# Altium footprint library Battery.PcbLib: 44 footprints (part 2 of 3)
Each footprint in its own frame and in the unit in brackets; x right, y up, seen from the top. Pads: shape width x height; smd on the part's side, far side on the other; paste and mask are expansions set on the pad; w line width, h text height; cw(c..) or ccw(c..) is an arc to the next point about the centre after c.
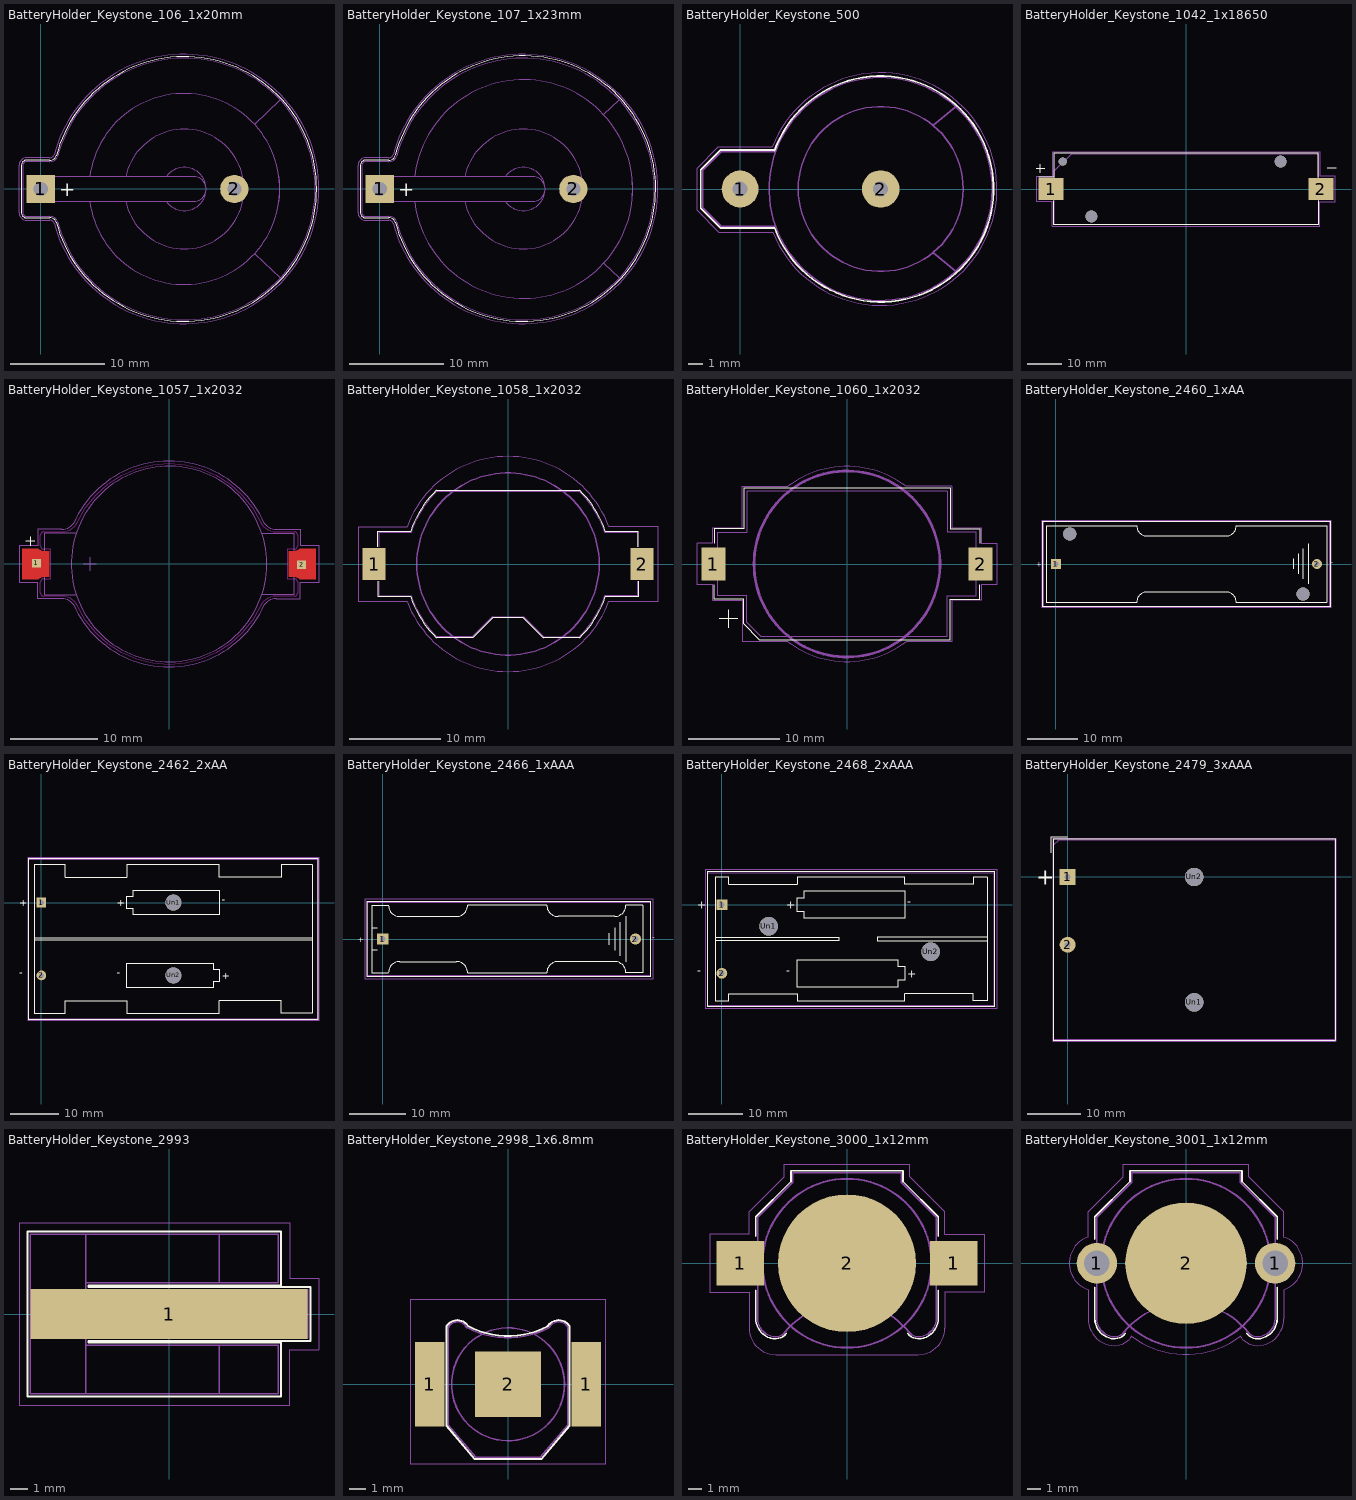
[diagram p1: the footprints below, top view; thin cyan lines are the x and y axes]

## BatteryHolder_Keystone_106_1x20mm [mm]
pads (2):
  rect 3x3 hole 1.5: 1(0,0)
  round 3 hole 1.5: 2(20.49,0)
F.SilkS:
  lines w0.12: -2.05,-2.5 -2.05,2.5 cw(c-1.5,2.5) -1.5,3.05 0.95,3.05 ccw(c0.95,3.806) 1.65,3.52 cw(c15.2,0) 29.2,0 cw(c15.2,0) 1.65,-3.52 ccw(c0.95,-3.806) 0.95,-3.05 -1.5,-3.05 cw(c-1.5,-2.5) -2.05,-2.5
  text "+" at 1.957,-0.793 h1.5
F.CrtYd:
  lines w0.05: -2.3,-2.5 -2.3,2.5 cw(c-1.5,2.5) -1.5,3.3 0.95,3.3 ccw(c0.95,3.803) 1.41,3.6 cw(c15.199,0.004) 29.45,0 cw(c15.199,-0.004) 1.41,-3.6 ccw(c0.95,-3.803) 0.95,-3.3 -1.5,-3.3 cw(c-1.5,-2.5) -2.3,-2.5
F.Fab:
  lines w0.1: 5.18,-1.3 ccw(c15.2,0) 25.22,1.3 ; 5.18,1.3 cw(c15.2,0) 25.22,-1.3 ; 9,-1.3 ccw(c15.198,-0.003) 21.53,0 ccw(c15.198,0.003) 9,1.3 ; 13.3,-1.3 ccw(c15.2,0) 17.495,0.176 ; 13.3,1.3 cw(c15.2,0) 17.495,-0.176 ; 22.644,-6.858 25.35,-9.373 ; 22.657,6.858 25.342,9.429 ; -1.9,-2.5 -1.9,2.5 cw(c-1.5,2.5) -1.5,2.9 0.95,2.9 ccw(c0.95,3.802) 1.8,3.5 cw(c15.2,0) 29.05,0 cw(c15.2,0) 1.8,-3.5 ccw(c0.95,-3.802) 0.95,-2.9 -1.5,-2.9 cw(c-1.5,-2.5) -1.9,-2.5 ; 0,-1.3 0,1.3 16.2,1.3 cw(c16.2,0) 16.2,-1.3 0,-1.3
  text "'.Designator'" at 3.253,1.91 h1

## BatteryHolder_Keystone_107_1x23mm [mm]
pads (2):
  rect 3x3 hole 1.5: 1(0,0)
  round 3 hole 1.5: 2(20.49,0)
F.SilkS:
  lines w0.12: 1.65,3.52 cw(c0.95,3.806) 0.95,3.05 -1.5,3.05 ccw(c-1.5,2.5) -2.05,2.5 -2.05,-2.5 ccw(c-1.5,-2.5) -1.5,-3.05 0.95,-3.05 cw(c0.95,-3.806) 1.65,-3.52 ccw(c15.2,0) 29.2,0 ccw(c15.2,0.085) 1.65,3.605
  text "+" at 1.957,-0.793 h1.5
F.CrtYd:
  lines w0.05: -2.3,-2.5 -2.3,2.5 cw(c-1.5,2.5) -1.5,3.3 0.95,3.3 ccw(c0.95,3.803) 1.41,3.6 cw(c15.199,0.004) 29.45,0 cw(c15.199,-0.004) 1.41,-3.6 ccw(c0.95,-3.803) 0.95,-3.3 -1.5,-3.3 cw(c-1.5,-2.5) -2.3,-2.5
F.Fab:
  lines w0.1: 3.7,-1.3 ccw(c15.2,0) 26.7,1.3 ; 3.7,1.3 cw(c15.2,0) 26.7,-1.3 ; 9,-1.3 ccw(c15.198,-0.003) 21.53,0 ccw(c15.198,0.003) 9,1.3 ; 13.3,-1.3 ccw(c15.2,0) 17.495,0.176 ; 13.3,1.3 cw(c15.2,0) 17.495,-0.176 ; 23.711,7.887 25.339,9.439 ; 23.724,-7.861 25.367,-9.391 ; -1.9,-2.5 -1.9,2.5 cw(c-1.5,2.5) -1.5,2.9 0.95,2.9 ccw(c0.95,3.802) 1.8,3.5 cw(c15.2,0) 29.05,0 cw(c15.2,0) 1.8,-3.5 ccw(c0.95,-3.802) 0.95,-2.9 -1.5,-2.9 cw(c-1.5,-2.5) -1.9,-2.5 ; 0,-1.3 0,1.3 16.2,1.3 cw(c16.2,0) 16.2,-1.3 0,-1.3
  text "'.Designator'" at 3.053,2.31 h1

## BatteryHolder_Keystone_500 [mm]
pads (2):
  round 2.5 hole 1.02: 1(0,0)
  round 2.54 hole 1.02: 2(9.53,0)
F.SilkS:
  lines w0.12: 2.33,-2.65 -1.32,-2.65 -2.67,-1.3 -2.67,1.3 -1.32,2.65 2.33,2.65 ; 2.33,2.6 cw(c9.53,0) 2.343,-2.636
F.CrtYd:
  lines w0.05: 2.211,-2.928 ccw(c9.53,0) 2.18,2.85 -1.47,2.85 -2.92,1.4 -2.92,-1.45 -1.42,-2.95 2.23,-2.95
F.Fab:
  circle w0.1: c9.53,0 r5.59
  circle w0.1: c9.53,0 r7.559
  lines w0.1: 2.41,-2.54 -1.27,-2.54 -2.54,-1.27 -2.54,1.27 -1.27,2.54 2.41,2.54 ; 13.08,-4.32 14.61,-5.59 ; 13.08,4.32 14.61,5.59
  text "'.Designator'" at 3.228,-0.84 h1

## BatteryHolder_Keystone_1042_1x18650 [mm]
pads (5):
  rect 7.34x6.35 smd: 1(-39.33,0) 2(39.33,0)
  round 3.45 hole 3.45: Un1(-27.6,-8) Un3(27.6,8)
  round 2.39 hole 2.39: Un2(-35.93,8)
F.SilkS:
  lines w0.12: -43.75,6 -41.25,6 ; -43,3.44 -38.64,3.44 -38.64,10.44 38.64,10.44 ; -42.5,4.75 -42.5,7.25 ; -38.64,-3.44 -38.64,-10.44 38.64,-10.44 38.64,-3.44 ; 38.64,3.44 38.64,10.42 ; 41.25,6 43.75,6
F.CrtYd:
  lines w0.05: -43.5,-3.68 -39.03,-3.68 -39.03,-10.83 39.03,-10.83 39.03,-3.68 43.5,-3.68 43.5,3.68 39.03,3.68 39.03,10.83 -39.03,10.83 -39.03,3.68 -43.5,3.68 -43.5,-3.68
F.Fab:
  lines w0.1: -38.53,-10.33 -38.53,5.168 -33.367,10.33 38.53,10.33 38.53,-10.33 -38.53,-10.33
  text "'.Designator'" at -4.047,-0.84 h1

## BatteryHolder_Keystone_1057_1x2032 [mm]
pads (2):
  rect 1x1 smd: 1(-15.15,0.1) 2(15.15,-0.1)
F.Cu:
  region: -14.95,1.75 -14.878,1.695 -14.807,1.639 -14.649,1.55 -14.565,1.517 -14.481,1.485 -14.392,1.465 -14.304,1.444 -14.124,1.43 -13.706,1.43 -13.706,-1.44 -14.106,-1.44 -14.288,-1.453 -14.467,-1.493 -14.637,-1.559 -14.797,-1.648 -14.869,-1.704 -14.941,-1.76 -16.8,-1.76 -16.8,1.75
  region: 16.8,-1.75 14.95,-1.75 14.878,-1.695 14.807,-1.639 14.649,-1.55 14.565,-1.517 14.481,-1.485 14.392,-1.465 14.304,-1.444 14.124,-1.43 13.706,-1.43 13.706,1.44 14.106,1.44 14.288,1.453 14.467,1.493 14.637,1.559 14.797,1.648 14.869,1.704 14.941,1.76 16.8,1.76
F.SilkS:
  lines w0.12: -16.35,2.6 -15.35,2.6 ; -15.85,2.1 -15.85,3.1
F.Paste:
  region: -14.95,1.75 -14.878,1.695 -14.807,1.639 -14.649,1.55 -14.565,1.517 -14.481,1.485 -14.392,1.465 -14.304,1.444 -14.124,1.43 -13.706,1.43 -13.706,-1.44 -14.106,-1.44 -14.288,-1.453 -14.467,-1.493 -14.637,-1.559 -14.797,-1.648 -14.869,-1.704 -14.941,-1.76 -16.8,-1.76 -16.8,1.75
  region: 16.8,-1.75 14.95,-1.75 14.878,-1.695 14.807,-1.639 14.649,-1.55 14.565,-1.517 14.481,-1.485 14.392,-1.465 14.304,-1.444 14.124,-1.43 13.706,-1.43 13.706,1.44 14.106,1.44 14.288,1.453 14.467,1.493 14.637,1.559 14.797,1.648 14.869,1.704 14.941,1.76 16.8,1.76
F.Mask:
  region: -14.95,1.75 -14.878,1.695 -14.807,1.639 -14.649,1.55 -14.565,1.517 -14.481,1.485 -14.392,1.465 -14.304,1.444 -14.124,1.43 -13.706,1.43 -13.706,-1.44 -14.106,-1.44 -14.288,-1.453 -14.467,-1.493 -14.637,-1.559 -14.797,-1.648 -14.869,-1.704 -14.941,-1.76 -16.8,-1.76 -16.8,1.75
  region: 16.8,-1.75 14.95,-1.75 14.878,-1.695 14.807,-1.639 14.649,-1.55 14.565,-1.517 14.481,-1.485 14.392,-1.465 14.304,-1.444 14.124,-1.43 13.706,-1.43 13.706,1.44 14.106,1.44 14.288,1.453 14.467,1.493 14.637,1.559 14.797,1.648 14.869,1.704 14.941,1.76 16.8,1.76
Edge.Cuts:
  lines w0.1: 14.7,-2.085 ccw(c14.3,-2.085) 14.3,-1.685 13.5,-1.685 13.5,1.685 14.3,1.685 ccw(c14.3,2.085) 14.7,2.085 14.7,3.285 ccw(c14.3,3.285) 14.3,3.685 12.245,3.685 11.921,3.711 11.607,3.789 11.309,3.917 11.035,4.092 10.794,4.308 10.591,4.561 10.431,4.843 9.511,6.465 8.341,7.917 6.952,9.16 5.381,10.163 3.668,10.899 1.858,11.349 0,11.5 -1.858,11.349 -3.668,10.899 -5.381,10.163 -6.952,9.16 -8.341,7.917 -9.511,6.465 -10.431,4.843 -10.591,4.561 -10.794,4.308 -11.035,4.092 -11.309,3.917 -11.607,3.789 -11.921,3.711 -12.245,3.685 -14.3,3.685 ccw(c-14.3,3.285) -14.7,3.285 -14.7,2.085 ccw(c-14.3,2.085) -14.3,1.685 -13.5,1.685 -13.5,-1.685 -14.3,-1.685 ccw(c-14.3,-2.085) -14.7,-2.085 -14.7,-3.285 ccw(c-14.3,-3.285) -14.3,-3.685 -12.245,-3.685 -11.921,-3.711 -11.607,-3.789 -11.309,-3.917 -11.035,-4.092 -10.794,-4.308 -10.591,-4.561 -10.431,-4.843 -9.511,-6.465 -8.341,-7.917 -6.952,-9.16 -5.381,-10.163 -3.668,-10.899 -1.858,-11.349 0,-11.5 1.858,-11.349 3.668,-10.899 5.381,-10.163 6.952,-9.16 8.341,-7.917 9.511,-6.465 10.431,-4.843 10.591,-4.561 10.794,-4.308 11.035,-4.092 11.309,-3.917 11.607,-3.789 11.921,-3.711 12.245,-3.685 14.3,-3.683 ccw(c14.3,-3.283) 14.7,-3.283 14.7,-2.083
F.CrtYd:
  lines w0.05: -17.15,-2.09 -17.15,2.09 -15,2.09 -15,3.95 -12.25,3.95 ccw(c-12.277,5.654) -10.9,4.65 cw(c0,-0.13) 10.9,4.65 ccw(c12.277,5.654) 12.25,3.95 15,3.95 15,2.09 17.15,2.09 17.15,-2.09 15,-2.09 15,-3.95 12.25,-3.95 ccw(c12.277,-5.654) 10.9,-4.65 cw(c0,0.13) -10.9,-4.65 ccw(c-12.277,-5.654) -12.25,-3.95 -15,-3.95 -15,-2.09 -17.15,-2.09
F.Fab:
  circle w0.1: c0,0 r11.18
  lines w0.1: -10.62,-3.5 -14.25,-3.5 -14.25,3.5 -10.62,3.5 ; -9.8,0 -8.3,0 ; -9.05,-0.75 -9.05,0.75 ; 10.62,-3.5 14.25,-3.5 14.25,3.5 10.62,3.5
  text "'.Designator'" at -4.047,-0.84 h1

## BatteryHolder_Keystone_1058_1x2032 [mm]
pads (2):
  rect 2.54x3.51 smd: 1(-14.68,0) 2(14.68,0)
F.SilkS:
  lines w0.12: -14.31,-1.9 -14.31,-3.61 -10.692,-3.61 ccw(c0,0) -7.845,-8.112 ; -14.31,1.9 -14.31,3.61 -10.692,3.61 cw(c0,0) -7.845,8.112 ; -7.847,-8.11 -3.86,-8.11 -1.66,-5.91 1.66,-5.91 3.86,-8.11 7.847,-8.11 ; -7.847,8.11 7.847,8.11 ; 7.845,-8.112 ccw(c0,0) 10.692,-3.61 14.31,-3.61 14.31,-1.9 ; 7.845,8.112 cw(c0,0) 10.692,3.61 14.31,3.61 14.31,1.9
Dwgs.User:
  circle w0.15: c0,0 r10
F.CrtYd:
  lines w0.05: -11.06,-4.11 -16.45,-4.11 -16.45,4.11 -11.06,4.11 cw(c0,0) 11.058,4.116 ; -11.058,-4.116 ccw(c0,0) 11.06,-4.11 16.45,-4.11 16.45,4.11 11.06,4.11
F.Fab:
  lines w0.1: -14.2,-1.9 -14.2,-3.5 -10.613,-3.5 ccw(c0,0) -7.803,-8 -3.9,-8 -1.7,-5.8 1.7,-5.8 3.9,-8 7.803,-8 ccw(c0,0) 10.613,-3.5 14.2,-3.5 14.2,-1.9 ; -14.2,1.9 -14.2,3.5 -10.613,3.5 cw(c0,0) -7.803,8 7.803,8 cw(c0,0) 10.613,3.5 14.2,3.5 14.2,1.9
  text "'.Designator'" at -4.047,-0.84 h1

## BatteryHolder_Keystone_1060_1x2032 [mm]
pads (2):
  rect 2.6x3.6 smd: 1(-14.65,0) 2(14.65,0)
F.SilkS:
  lines w0.12: -14.55,-2.3 -14.55,-3.85 -11.35,-3.85 -11.35,-6.55 -9.55,-8.35 11.35,-8.35 11.35,-3.85 14.55,-3.85 14.55,-2.3 ; -14.55,2.3 -14.55,3.85 -11.35,3.85 -11.35,8.35 11.35,8.35 11.35,3.85 14.55,3.85 14.55,2.3 ; -14,-6 -12,-6 ; -13,-7 -13,-5
Dwgs.User:
  circle w0.3: c0,0 r10.2
F.CrtYd:
  lines w0.05: -16.45,-2.3 -14.7,-2.3 -14.7,-4 -11.5,-4 -11.5,-8.5 -6.5,-8.5 ccw(c0,0) 6.5,-8.5 11.5,-8.5 11.5,-4 14.7,-4 14.7,-2.3 16.45,-2.3 16.45,2.3 14.7,2.3 14.7,4 11.5,4 11.5,8.5 6.5,8.5 ccw(c0,0) -6.5,8.5 -11.5,8.5 -11.5,4 -14.7,4 -14.7,2.3 -16.45,2.3 -16.45,-2.3
F.Fab:
  lines w0.1: -14.2,-3.5 -14.2,3.5 -11,3.5 -11,8 11,8 11,3.5 14.2,3.5 14.2,-3.5 11,-3.5 11,-8 -9.4,-8 -11,-6.4 -11,-3.5 -14.2,-3.5
  text "'.Designator'" at -4.047,-0.84 h1

## BatteryHolder_Keystone_2460_1xAA [mm]
pads (4):
  rect 2x2 hole 1.02: 1(0,0)
  round 2 hole 1.02: 2(51.99,0)
  round 2.64 hole 2.64: Un1(49.23,-5.995) Un2(2.75,5.995)
F.SilkS:
  lines w0.12: 47.31,-0.94 47.31,1.06 ; 48.31,-1.94 48.31,2.06 ; 49.31,-2.94 49.31,3.06 ; 50.31,-3.94 50.31,4.06 ; -2.62,-8.565 -2.62,8.565 54.62,8.565 54.62,-8.565 -2.62,-8.565 ; -1.9,-7.6 16.1,-7.6 cw(c18.1,-7.6) 18.1,-5.6 33.9,-5.6 cw(c33.9,-7.6) 35.9,-7.6 53.9,-7.6 53.9,7.6 35.9,7.6 cw(c33.9,7.6) 33.9,5.6 18.1,5.6 cw(c18.1,7.6) 16.1,7.6 -1.9,7.6 -1.9,-7.6
  text "+" at -3.978,-0.518 h1
  text "-" at 54.792,-0.09 h1
F.CrtYd:
  lines w0.05: -2.75,-8.7 -2.75,8.7 54.75,8.7 54.75,-8.7 -2.75,-8.7
F.Fab:
  lines w0.1: -2.5,-8.445 -2.5,8.445 54.5,8.445 54.5,-8.445 -2.5,-8.445
  text "'.Designator'" at -4.037,-0.78 h1

## BatteryHolder_Keystone_2462_2xAA [mm]
pads (4):
  rect 2x2 hole 1.02: 1(0,0)
  round 2 hole 1.02: 2(0,-14.99)
  round 3.3 hole 3.3: Un1(27.165,0) Un2(27.165,-14.99)
F.SilkS:
  lines w0.12: -1.42,-7.749 55.75,-7.749 ; -1.42,-7.241 55.75,-7.241 ; -2.69,-24.055 57.02,-24.055 57.02,9.065 -2.69,9.065 -2.69,-24.055 ; -1.42,-22.785 4.925,-22.785 4.925,-20.245 17.625,-20.245 17.625,-22.785 36.675,-22.785 36.675,-20.245 49.375,-20.245 49.375,-22.785 55.75,-22.785 55.75,7.795 49.375,7.795 49.375,5.255 36.675,5.255 36.675,7.795 17.625,7.795 17.625,5.255 4.925,5.255 4.925,7.795 -1.42,7.795 -1.42,-22.785 ; 17.625,-17.53 17.625,-12.45 35.405,-12.45 35.405,-13.72 36.675,-13.72 36.675,-16.26 35.405,-16.26 35.405,-17.53 17.625,-17.53 ; 17.625,-1.27 17.625,1.27 18.895,1.27 18.895,2.54 36.675,2.54 36.675,1.27 36.675,-2.54 18.895,-2.54 18.895,-1.27 17.625,-1.27
  text "+" at 15.562,-0.793 h1.5
  text "+" at -4.603,-0.793 h1.5
  text "+" at 37.152,-15.783 h1.5
  text "-" at -4.603,-15.14 h1.5
  text "-" at 37.152,-0.15 h1.5
  text "-" at 15.562,-15.14 h1.5
F.CrtYd:
  lines w0.05: -2.84,-24.21 57.17,-24.21 57.17,9.22 -2.84,9.22 -2.84,-24.21
F.Fab:
  lines w0.1: -2.59,-23.955 -2.59,8.965 56.92,8.965 56.92,-23.955 -2.59,-23.955
  text "'.Designator'" at -4.047,9.32 h1

## BatteryHolder_Keystone_2466_1xAAA [mm]
pads (2):
  rect 2x2 hole 1.02: 1(0,0)
  round 2 hole 1.02: 2(44.7,0)
F.SilkS:
  lines w0.12: -2,-2 -1,-2 ; -2,2 -1,2 ; 40,-1 40,1 ; 41,-2 41,2 ; 42,-3 42,3 ; 43,-4 43,4 ; -2.8,-6.6 -2.8,6.6 47.4,6.6 47.4,-6.6 -2.8,-6.6 ; -2,-6 1,-6 cw(c3,-6) 3,-4 13,-4 cw(c13,-6) 15,-6 29,-6 cw(c31,-6) 31,-4 41,-4 cw(c41,-6) 43,-6 46,-6 46,6 43,6 cw(c41,6) 41,4 31,4 cw(c31,6) 29,6 15,6 cw(c13,6) 13,4 3,4 cw(c3,6) 1,6 -2,6 -2,-6
  text "+" at -4.388,-0.578 h1
  text "-" at 47.682,-0.15 h1
F.CrtYd:
  lines w0.05: -3.2,-7 -3.2,7 47.8,7 47.8,-7 -3.2,-7
F.Fab:
  lines w0.1: -2.7,-6.5 -2.7,0 -2.7,6.5 47.3,6.5 47.3,-6.5 -2.7,-6.5
  text "'.Designator'" at -4.047,-0.84 h1

## BatteryHolder_Keystone_2468_2xAAA [mm]
pads (4):
  rect 2x2 hole 1.02: 1(0,0)
  round 2 hole 1.02: 2(0,-12.7)
  round 3.45 hole 3.45: Un1(8.64,-4) Un2(38.61,-8.7)
F.SilkS:
  lines w0.12: -2.7,-18.755 50.5,-18.755 ; -2.7,-18.75 -2.7,6.05 ; -2.7,6.055 50.5,6.055 ; -1.27,-6.7 21.59,-6.7 21.59,-6 -1.27,-6 ; 49.07,-6.7 28.75,-6.7 28.75,-6 49.07,-6 ; 50.5,-18.75 50.5,6.05 ; -1.27,-17.78 1.27,-17.78 1.27,-16.51 13.97,-16.51 13.97,-17.78 33.83,-17.78 33.83,-16.51 46.53,-16.51 46.53,-17.78 49.07,-17.78 49.07,5.08 46.53,5.08 46.53,3.81 33.83,3.81 33.83,5.08 13.97,5.08 13.97,3.81 1.27,3.81 1.27,5.08 -1.27,5.08 -1.27,-17.78 ; 13.97,-15.24 32.56,-15.24 32.56,-13.97 33.83,-13.97 33.83,-11.43 32.56,-11.43 32.56,-10.16 13.97,-10.16 13.97,-15.24 ; 13.97,-1.27 13.97,1.27 15.24,1.27 15.24,2.54 33.83,2.54 33.83,-2.54 15.24,-2.54 15.24,-1.27 13.97,-1.27
  text "-" at 11.907,-12.85 h1.5
  text "+" at 34.307,-13.493 h1.5
  text "+" at -4.603,-0.793 h1.5
  text "+" at 11.907,-0.793 h1.5
  text "-" at -4.603,-12.85 h1.5
  text "-" at 34.307,-0.15 h1.5
F.CrtYd:
  lines w0.05: -3.09,-19.15 -3.09,6.45 50.89,6.45 50.89,-19.15 -3.09,-19.15
F.Fab:
  lines w0.1: -2.59,-18.645 -2.59,5.945 50.39,5.945 50.39,-18.645 -2.59,-18.645
  text "'.Designator'" at 19.853,-6.19 h1

## BatteryHolder_Keystone_2479_3xAAA [mm]
pads (4):
  rect 3x3 hole 1.1: 1(0,0)
  round 3 hole 1.1: 2(0,-12.7)
  round 3.45 hole 3.45: Un1(23.72,-23.5) Un2(23.72,0)
F.SilkS:
  lines w0.12: -3.09,4.5 -3.09,7.5 -0.09,7.5 ; -2.71,-30.62 50.16,-30.62 50.16,7.12 -2.71,7.12 -2.71,-30.62
  text "+" at -5.935,-1.485 h3
F.CrtYd:
  lines w0.05: -2.84,-30.75 50.29,-30.75 50.29,7.25 -2.84,7.25 -2.84,-30.75
F.Fab:
  lines w0.1: -2.59,-30.5 -2.59,6 -1.59,7 50.04,7 50.04,-30.5 -2.59,-30.5
  text "'.Designator'" at 19.678,-12.59 h1

## BatteryHolder_Keystone_2993 [mm]
pads (1):
  rect 16x2.9 smd: 1(0,0)
F.SilkS:
  lines w0.12: -8.15,-4.75 6.45,-4.75 6.45,-1.65 -4.65,-1.65 -4.65,-1.55 8.15,-1.55 8.15,1.55 -4.65,1.55 -4.65,1.65 6.45,1.65 6.45,4.75 -8.15,4.75 -8.15,-4.75
F.CrtYd:
  lines w0.05: -8.65,-5.25 6.95,-5.25 6.95,-2.05 8.65,-2.05 8.65,2.05 6.95,2.05 6.95,5.25 -8.65,5.25 -8.65,-5.25
F.Fab:
  lines w0.1: -4.8,-4.6 -4.8,-1.4 8,-1.4 8,1.4 -4.8,1.4 -4.8,4.6 ; -4.8,-1.8 6.3,-1.8 6.3,-4.6 -8,-4.6 -8,4.6 6.3,4.6 6.3,1.8 -4.8,1.8 ; 2.9,-4.6 2.9,-1.8 ; 2.9,1.8 2.9,4.6
  text "'.Designator'" at -4.047,-0.84 h1

## BatteryHolder_Keystone_2998_1x6.8mm [mm]
pads (3):
  rect 1.78x5.08 smd: 1(-4.7,0) 1(4.7,0)
  rect 3.96x3.96 smd: 2(0,0)
F.SilkS:
  lines w0.12: -3.706,3.491 cw(c-3.05,3.1) -2.4,3.5 ccw(c0,8) 2.391,3.495 ; -3.7,3.5 -3.7,-2.5 -2,-4.5 2,-4.5 3.7,-2.5 3.7,3.5 ; 2.393,3.494 cw(c3.05,3.1) 3.704,3.5
Dwgs.User:
  circle w0.1: c0,0 r3.4
F.CrtYd:
  lines w0.05: -5.9,-4.8 5.9,-4.8 5.9,5.1 -5.9,5.1 -5.9,-4.8
F.Fab:
  lines w0.1: -3.6,-2.45 -1.95,-4.4 1.95,-4.4 3.6,-2.45 3.6,3.5 ; -3.6,-2.4 -3.6,3.4 ; -2.5,3.43 ccw(c0,8.03) 2.464,3.411 ; 2.496,3.432 cw(c3.05,3.15) 3.6,3.44
  lines w0.12: -3.608,3.402 cw(c-3.05,3.17) -2.5,3.42
  text "'.Designator'" at -2.778,-4.633 h0.7

## BatteryHolder_Keystone_3000_1x12mm [mm]
pads (3):
  rect 3.5x3.3 smd: 1(-7.9,0) 1(7.9,0)
  round 10.2 smd: 2(0,0)
F.SilkS:
  lines w0.12: -6.75,-4.1 -6.75,-2 ; -6.75,-4.05 ccw(c-5.25,-4.1) -5.3,-5.6 ; -6.75,2 -6.75,3.45 -4.15,6.05 -4.15,6.85 4.15,6.85 4.15,6.05 6.75,3.45 6.75,2 ; -5.415,-5.584 ccw(c-5.29,-4.6) -4.5,-5.2 ; 4.5,-5.2 ccw(c5.29,-4.6) 5.415,-5.584 ; 5.3,-5.6 ccw(c5.25,-4.1) 6.75,-4.05 ; 6.75,-4.1 6.75,-2
Dwgs.User:
  circle w0.15: c0,0 r6.25
F.CrtYd:
  lines w0.05: -10.15,-2.15 -7.25,-2.15 -7.25,-4.8 ccw(c-5.29,-4.8) -5.29,-6.76 5.29,-6.76 ccw(c5.29,-4.8) 7.25,-4.8 7.25,-2.15 10.15,-2.15 10.15,2.15 7.25,2.15 7.25,3.8 4.65,6.4 4.65,7.35 -4.65,7.35 -4.65,6.4 -7.25,3.8 -7.25,2.15 -10.15,2.15 -10.15,-2.15
F.Fab:
  lines w0.1: -6.6,-4.1 -6.6,3.4 -4,6 -4,6.7 4,6.7 4,6 6.6,3.4 6.6,-4.1 ; -6.6,-4.05 ccw(c-5.25,-4.1) -5.3,-5.45 ; -5.378,-5.448 ccw(c-5.29,-4.6) -4.6,-5.1 cw(c0,-8.9) 4.608,-5.11 ; 4.6,-5.1 ccw(c5.29,-4.6) 5.378,-5.448 ; 5.3,-5.45 ccw(c5.25,-4.1) 6.6,-4.05
  text "'.Designator'" at -4.047,-0.84 h1

## BatteryHolder_Keystone_3001_1x12mm [mm]
pads (3):
  round 3 hole 1.9: 1(-6.6,0) 1(6.6,0)
  round 9 smd: 2(0,0)
F.SilkS:
  lines w0.12: -6.75,-1.8 -6.75,-4.1 ccw(c-5.25,-4.101) -5.3,-5.6 ; -6.75,1.8 -6.75,3.45 -4.15,6.05 -4.15,6.85 4.15,6.85 4.15,6.05 6.75,3.45 6.75,1.8 ; -5.415,-5.584 ccw(c-5.29,-4.6) -4.5,-5.2 ; 4.5,-5.2 ccw(c5.306,-4.588) 5.3,-5.6 ccw(c5.25,-4.101) 6.75,-4.1 6.75,-1.8
Dwgs.User:
  circle w0.15: c0,0 r6.25
F.CrtYd:
  lines w0.05: -7.25,-4.1 -7.25,-1.95 cw(c-6.599,-0.005) -7.25,1.94 -7.25,3.8 -4.65,6.4 -4.65,7.35 4.65,7.35 4.65,6.4 7.25,3.8 7.25,1.94 cw(c6.599,-0.005) 7.25,-1.95 7.25,-4.1 cw(c5.25,-4.101) 5.3,-6.1 cw(c5.292,-4.598) 4.22,-5.65 ccw(c-0.129,-9.23) 4.02,-5.42 cw(c0,0.023) -4.02,-5.42 ccw(c0.129,-9.23) -4.22,-5.65 cw(c-5.292,-4.598) -5.3,-6.1 cw(c-5.25,-4.101) -7.25,-4.1
F.Fab:
  lines w0.1: -5.378,-5.448 ccw(c-5.29,-4.6) -4.6,-5.1 cw(c0,-8.9) 4.608,-5.11 ; -5.3,-5.45 cw(c-5.25,-4.1) -6.6,-4.05 -6.6,3.4 -4,6 -4,6.7 4,6.7 4,6 6.6,3.4 6.6,-4.1 cw(c5.25,-4.101) 5.3,-5.45 ; 4.6,-5.1 ccw(c5.29,-4.6) 5.378,-5.448
  text "'.Designator'" at -4.047,-0.84 h1